# EAGLE library part IDC-8WAY (library Arduino-Boards)
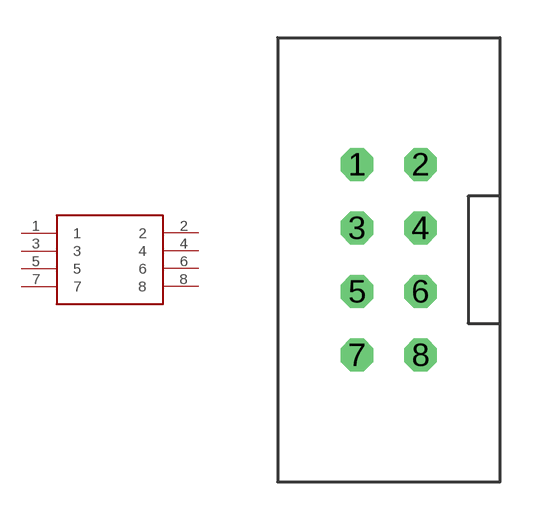
[diagram p2: symbol with the pads of IDC-8WAY; footprint IDC-8WAY]

Designator prefix -

## IDC-8WAY  [IDC-8WAY]
1  1
2  2
3  3
4  4
5  5
6  6
7  7
8  8

## Footprint IDC-8WAY (pad centres in mm)
drill 0.8 octagon: 1 -1.27,3.81; 2 1.27,3.81; 3 -1.27,1.27; 4 1.27,1.27; 5 -1.27,-1.27; 6 1.27,-1.27; 7 -1.27,-3.81; 8 1.27,-3.81